# EAGLE library part 178308-2 (library 178308-2)
20 Positions Header Connector 0.150" (3.81mm) Through Hole, Right Angle Gold Source: Datasheet <http://www.te.com/commerce/DocumentDelivery/DDEController?Action=showdoc&DocId=Customer Drawing178308C1pdfJapaneseJPN_CD_178308_C1.pdf178308-2>
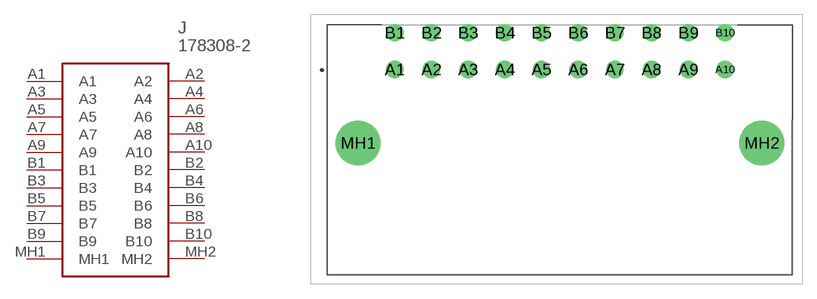
[diagram p0: symbol with the pads of 1783082; footprint 1783082]

Designator prefix J

## 178308-2 (Description: 20 Positions Header Connector 0.150" (3.81mm) Through Hole, Right Angle Gold; Height: 14mm; Manufacturer_Name: TE Connectivity; Manufacturer_Part_Number: 178308-2; Mouser_Part_Number: 571-1783082; Mouser_Price-Stock: https://www.mouser.com/Search/Refine.aspx?Keyword=571-1783082)  [1783082]
A1  A1
A2  A2
A3  A3
A4  A4
A5  A5
A6  A6
A7  A7
A8  A8
A9  A9
A10  A10
B1  B1
B2  B2
B3  B3
B4  B4
B5  B5
B6  B6
B7  B7
B8  B8
B9  B9
B10  B10
MH1  MH1
MH2  MH2

## Footprint 1783082 (pad centres in mm)
178308-2
drill 1.2 pad 1.8: A1 -16.817,8.285; A2 -13.007,8.285; A3 -9.197,8.285; A4 -5.387,8.285; A5 -1.577,8.285; A6 2.233,8.285; A7 6.043,8.285; A8 9.853,8.285; A9 13.663,8.285; A10 17.473,8.285; B1 -16.817,12.095; B2 -13.007,12.095; B3 -9.197,12.095; B4 -5.387,12.095; B5 -1.577,12.095; B6 2.233,12.095; B7 6.043,12.095; B8 9.853,12.095; B9 13.663,12.095; B10 17.473,12.095
drill 3.1 pad 4.65: MH1 -20.627,0.665; MH2 21.283,0.665